# Altium schematic symbol library conn_optic.SchLib: 5 symbols
Pins are listed as number, name and electrical type; pins without a type are passive.

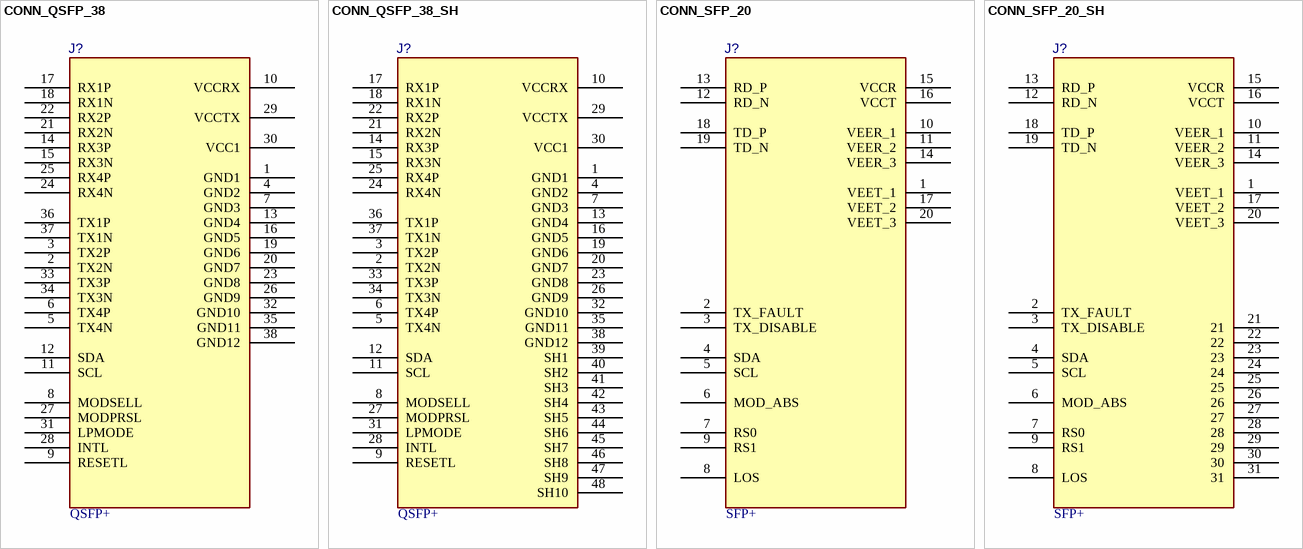
[diagram p0: symbols CONN_QSFP_38 to CONN_SFP_20_SH]

## CONN_QSFP_38
designator J?, comment QSFP+
CONN, QSFP PLUS (SFP+) RCPT 20POS R/A GOLD SMD; MANF: Molex; MANF_P#: 1704320002; PARAM: optic fiber, QSFP+; PRICE: 7$; VALUE: QSFP+
footprint QSFP28_38 (zQSFP+/QSFP28 Conn, TE 1551920-2)
pins: 1 GND1, 2 TX2N, 3 TX2P, 4 GND2, 5 TX4N, 6 TX4P, 7 GND3, 8 MODSELL, 9 RESETL, 10 VCCRX, 11 SCL, 12 SDA, 13 GND4, 14 RX3P, 15 RX3N, 16 GND5, 17 RX1P, 18 RX1N, 19 GND6, 20 GND7, 21 RX2N, 22 RX2P, 23 GND8, 24 RX4N, 25 RX4P, 26 GND9, 27 MODPRSL, 28 INTL, 29 VCCTX, 30 VCC1, 31 LPMODE, 32 GND10, 33 TX3P, 34 TX3N, 35 GND11, 36 TX1P, 37 TX1N, 38 GND12

## CONN_QSFP_38_SH
designator J?, comment QSFP+
CONN, QSFP PLUS (SFP+) RCPT 20POS R/A GOLD SMD; MANF: Samtec; MANF_P#: QSFPK-PF-01; PARAM: optic fiber, QSFP+; PRICE: 7$; VALUE: QSFP+
footprint QSFP28_38_SH (zQSFP+/QSFP28 Conn, TE 1551920-2 + 2170705-7)
pins: 1 GND1, 2 TX2N, 3 TX2P, 4 GND2, 5 TX4N, 6 TX4P, 7 GND3, 8 MODSELL, 9 RESETL, 10 VCCRX, 11 SCL, 12 SDA, 13 GND4, 14 RX3P, 15 RX3N, 16 GND5, 17 RX1P, 18 RX1N, 19 GND6, 20 GND7, 21 RX2N, 22 RX2P, 23 GND8, 24 RX4N, 25 RX4P, 26 GND9, 27 MODPRSL, 28 INTL, 29 VCCTX, 30 VCC1, 31 LPMODE, 32 GND10, 33 TX3P, 34 TX3N, 35 GND11, 36 TX1P, 37 TX1N, 38 GND12, 39 SH1, 40 SH2, 41 SH3, 42 SH4, 43 SH5, 44 SH6, 45 SH7, 46 SH8, 47 SH9, 48 SH10

## CONN_SFP_20
designator J?, comment SFP+
CONN, SFP PLUS (SFP+) RCPT 20POS R/A GOLD SMD; MANF: Molex; MANF_P#: 74441-0010; PARAM: optic fiber, SFP+; PRICE: 5.7$; VALUE: SFP+
footprint SFP_20 (SFP+ Conn, MOLEX, 74441-0010, 74737-0010)
pins: 1 VEET_1, 2 TX_FAULT, 3 TX_DISABLE, 4 SDA, 5 SCL, 6 MOD_ABS, 7 RS0, 8 LOS, 9 RS1, 10 VEER_1, 11 VEER_2, 12 RD_N, 13 RD_P, 14 VEER_3, 15 VCCR, 16 VCCT, 17 VEET_2, 18 TD_P, 19 TD_N, 20 VEET_3

## CONN_SFP_20_SH
designator J?, comment SFP+
CONN, SFP PLUS (SFP+) RCPT 20POS R/A GOLD SMD; MANF: Molex; MANF_P#: 74441-0010; PARAM: optic fiber, SFP+; PRICE: 5.7$; VALUE: SFP+
footprint SFP_20_SH (SFP Conn, MOLEX, 74441-0010, 74737-0010)
pins: 1 VEET_1, 2 TX_FAULT, 3 TX_DISABLE, 4 SDA, 5 SCL, 6 MOD_ABS, 7 RS0, 8 LOS, 9 RS1, 10 VEER_1, 11 VEER_2, 12 RD_N, 13 RD_P, 14 VEER_3, 15 VCCR, 16 VCCT, 17 VEET_2, 18 TD_P, 19 TD_N, 20 VEET_3, 21, 22, 23, 24, 25, 26, 27, 28, 29, 30, 31

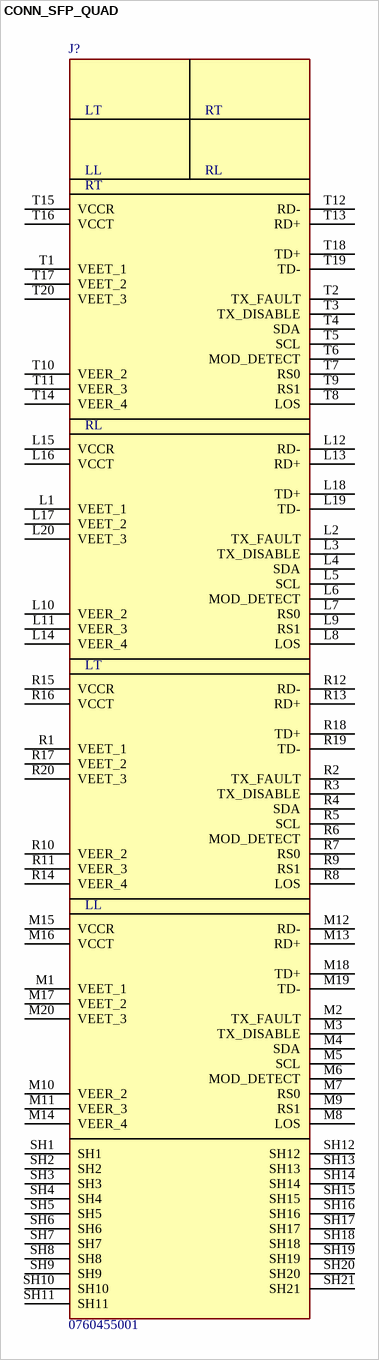
[diagram p1: symbol CONN_SFP_QUAD]

## CONN_SFP_QUAD
designator J?, comment 0760455001
Connector SFP+ 2X2; MANF: Molex; Height: 25.83mm; MANF_P#: 0760455001
footprint 0760455001
pins: L1 VEET_1, L2 TX_FAULT, L3 TX_DISABLE, L4 SDA, L5 SCL, L6 MOD_DETECT, L7 RS0, L8 LOS, L9 RS1, L10 VEER_2, L11 VEER_3, L12 RD-, L13 RD+, L14 VEER_4, L15 VCCR, L16 VCCT, L17 VEET_2, L18 TD+, L19 TD-, L20 VEET_3, M1 VEET_1, M2 TX_FAULT, M3 TX_DISABLE, M4 SDA, M5 SCL, M6 MOD_DETECT, M7 RS0, M8 LOS, M9 RS1, M10 VEER_2, M11 VEER_3, M12 RD-, M13 RD+, M14 VEER_4, M15 VCCR, M16 VCCT, M17 VEET_2, M18 TD+, M19 TD-, M20 VEET_3, R1 VEET_1, R2 TX_FAULT, R3 TX_DISABLE, R4 SDA, R5 SCL, R6 MOD_DETECT, R7 RS0, R8 LOS, R9 RS1, R10 VEER_2, R11 VEER_3, R12 RD-, R13 RD+, R14 VEER_4, R15 VCCR, R16 VCCT, R17 VEET_2, R18 TD+, R19 TD-, R20 VEET_3, SH1, SH2, SH3, SH4, SH5, SH6, SH7, SH8, SH9, SH10, SH11, SH12, SH13, SH14, SH15, SH16, SH17, SH18, SH19, SH20, SH21, T1 VEET_1, T2 TX_FAULT, T3 TX_DISABLE, T4 SDA, T5 SCL, T6 MOD_DETECT, T7 RS0, T8 LOS, T9 RS1, T10 VEER_2, T11 VEER_3, T12 RD-, T13 RD+, T14 VEER_4, T15 VCCR, T16 VCCT, T17 VEET_2, T18 TD+, T19 TD-, T20 VEET_3
text: LT; RT; LL; RL